# EAGLE library part TUSB3410 (library usbtoys)
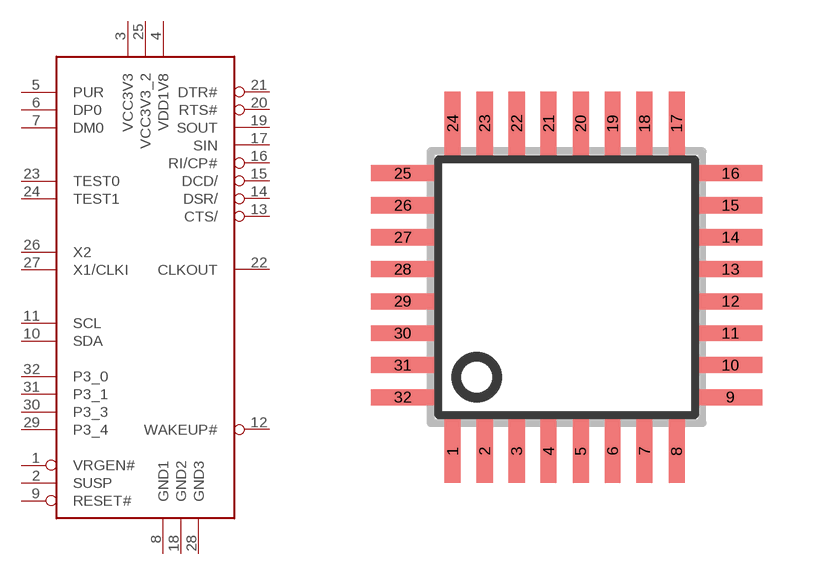
[diagram p2: symbol with the pads of SQFP-S-7X7-32; footprint SQFP-S-7X7-32]

Designator prefix -

## TUSB3410  [SQFP-S-7X7-32]
1  VRGEN#
2  SUSP
3  VCC3V3  pwr
4  VDD1V8  pwr
5  PUR
6  DP0
7  DM0
8  GND1  pwr
9  RESET#
10  SDA
11  SCL
12  WAKEUP#
13  CTS/
14  DSR/
15  DCD/
16  RI/CP#
17  SIN  in
18  GND2  pwr
19  SOUT  out
20  RTS#
21  DTR#
22  CLKOUT  out
23  TEST0
24  TEST1
25  VCC3V3_2  pwr
26  X2
27  X1/CLKI
28  GND3  pwr
29  P3_4
30  P3_3
31  P3_1
32  P3_0

## Footprint SQFP-S-7X7-32 (pad centres in mm)
QFP40 shrink quad flat pack, square
smd 0.4 x 1.6: 1 -2.85,-4.1; 2 -2.05,-4.1; 3 -1.25,-4.1; 4 -0.45,-4.1; 5 0.35,-4.1; 6 1.15,-4.1; 7 1.95,-4.1; 8 2.75,-4.1; 17 2.75,4.1; 18 1.95,4.1; 19 1.15,4.1; 20 0.35,4.1; 21 -0.45,4.1; 22 -1.25,4.1; 23 -2.05,4.1; 24 -2.85,4.1
smd 1.6 x 0.4: 9 4.1,-2.75; 10 4.1,-1.95; 11 4.1,-1.15; 12 4.1,-0.35; 13 4.1,0.45; 14 4.1,1.25; 15 4.1,2.05; 16 4.1,2.85; 25 -4.1,2.85; 26 -4.1,2.05; 27 -4.1,1.25; 28 -4.1,0.45; 29 -4.1,-0.35; 30 -4.1,-1.15; 31 -4.1,-1.95; 32 -4.1,-2.75